# Altium footprint library Soldering_Trainer_PCB.PcbLib: 16 footprints
Each footprint in its own frame and in the unit in brackets; x right, y up, seen from the top. Pads: shape width x height; smd on the part's side, far side on the other; paste and mask are expansions set on the pad; w line width, h text height; cw(c..) or ccw(c..) is an arc to the next point about the centre after c.
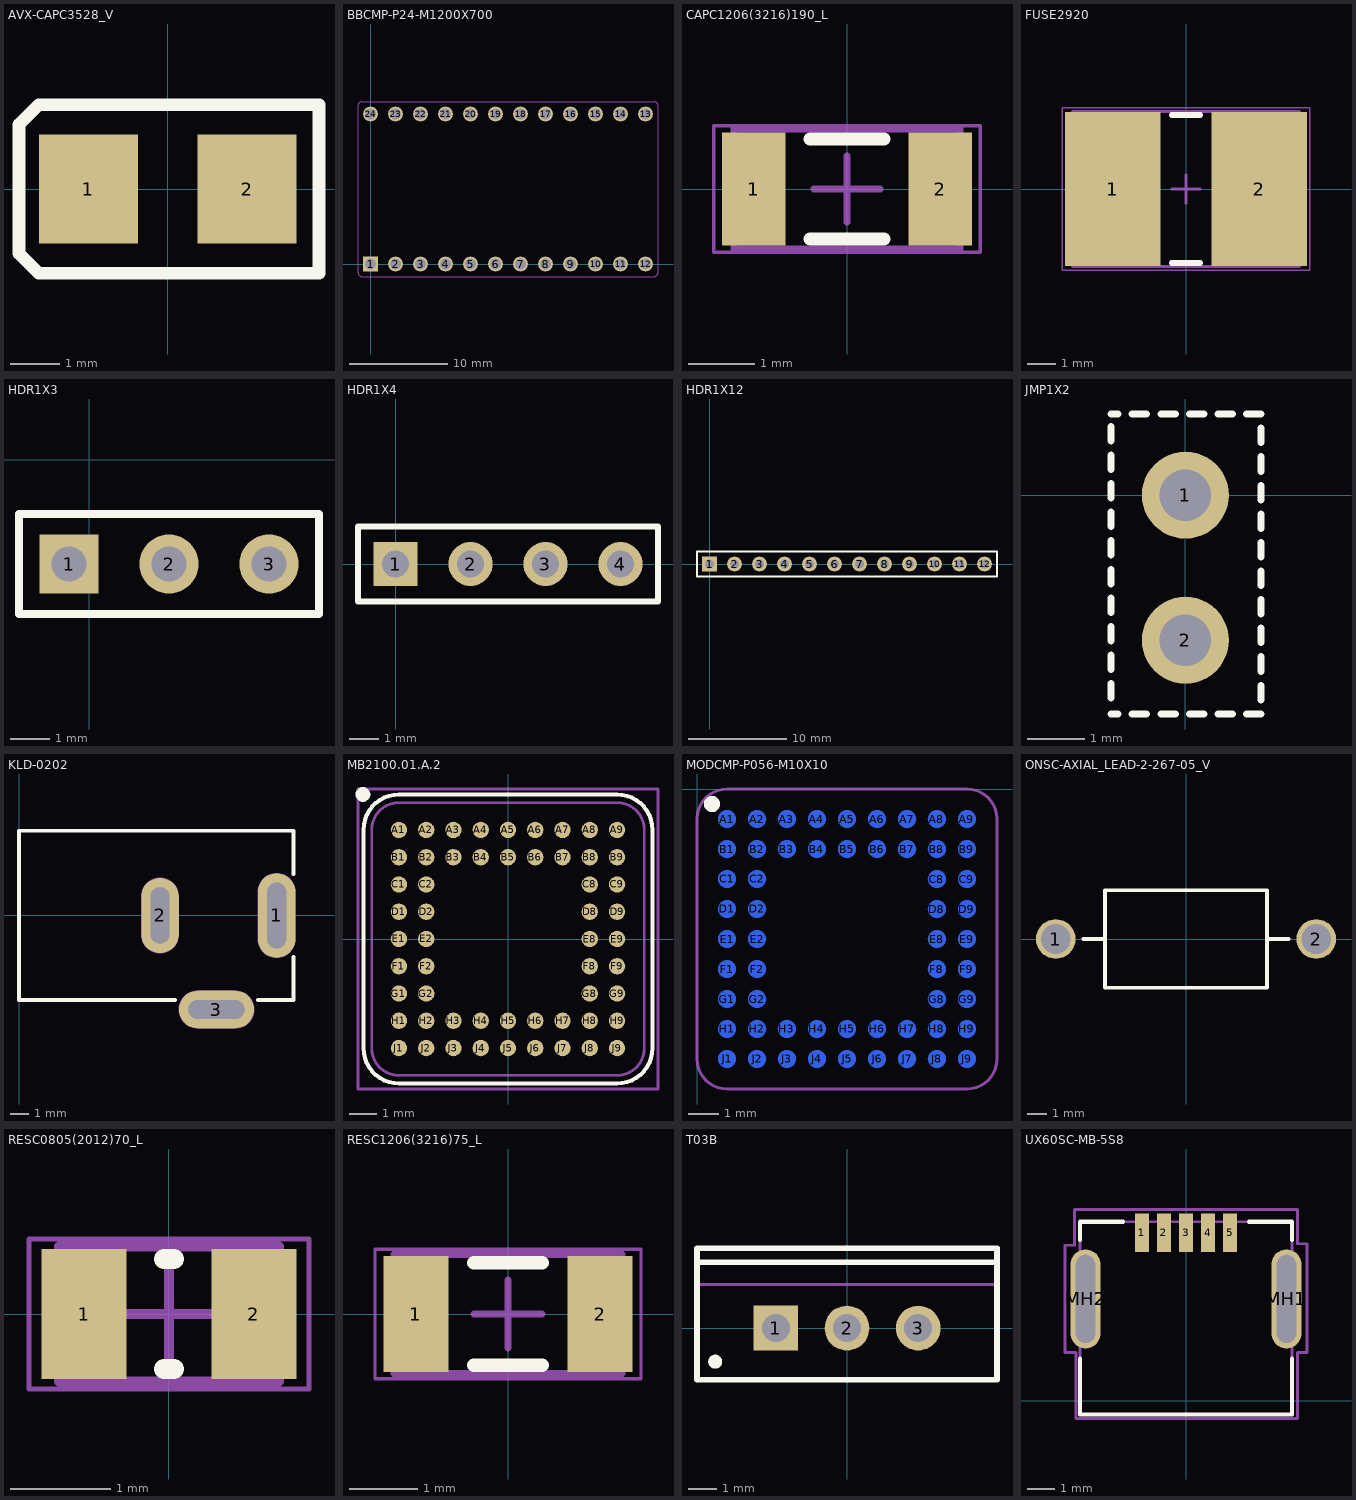
[diagram p0: the footprints below, top view; thin cyan lines are the x and y axes]

## AVX-CAPC3528_V [mm] "SMT Capacitor, 2 Leads, Body 3.5x2.8mm"
pads (2):
  rect 2x2.2 smd: 1(-1.6,0) 2(1.6,0)
Top Overlay:
  lines w0.254: -3,-1.3 -3,1.3 -2.6,1.7 3.05,1.7 3.05,-1.7 -2.6,-1.7 -3,-1.3
3D body: height 1.9, standoff 0, extent -1.704,-1.539 1.763,1.537
3D body: height 0.3, standoff 0, extent 1.578,-0.658 1.803,0.768
3D body: height 0.3, standoff 0, extent -1.793,-0.665 -1.568,0.824

## BBCMP-P24-M1200X700 [mm] "BB component,700mil width, 1200mil high"
pads (24):
  rect 1.5x1.5 hole 1.1: 1(0,0)
  round 1.5 hole 1.1: 2(2.54,0) 3(5.08,0) 4(7.62,0) 5(10.16,0) 6(12.7,0) 7(15.24,0) 8(17.78,0) 9(20.32,0) 10(22.86,0) 11(25.4,0) 12(27.94,0) 13(27.94,15.24) 14(25.4,15.24) 15(22.86,15.24) 16(20.32,15.24) 17(17.78,15.24) 18(15.24,15.24) 19(12.7,15.24) 20(10.16,15.24) 21(7.62,15.24) 22(5.08,15.24) 23(2.54,15.24) 24(0,15.24)
Mechanical 1:
  lines w0.05: -1.27,-0.889 ccw(c-0.889,-0.889) -0.889,-1.27 28.829,-1.27 ccw(c28.829,-0.889) 29.21,-0.889 29.21,16.129 ccw(c28.829,16.129) 28.829,16.51 -0.889,16.51 ccw(c-0.889,16.129) -1.27,16.129 -1.27,-0.889
3D body: height 2.49, standoff -9.05, extent -1.27,13.97 29.21,16.51
3D body: height 2.49, standoff -9.05, extent -1.27,-1.27 29.21,1.27

## CAPC1206(3216)190_L [mm] "Chip Capacitor, Body 3.2x1.6mm, Height 1.9mm, IPC High Density"
height 1.9
pads (2):
  rect 0.95x1.7 smd: 1(-1.4,0) 2(1.4,0)
Top Overlay:
  lines w0.2: -0.55,-0.75 0.55,-0.75 ; -0.55,0.75 0.55,0.75
Mechanical 13:
  lines w0.1: -1.7,-0.9 -1.7,0.9 1.7,0.9 1.7,-0.9 -1.7,-0.9
Mechanical 15:
  lines w0.05: -2,-0.95 -2,0.95 2,0.95 2,-0.95 -2,-0.95
  lines w0.1: -0.5,0 0.5,0 ; 0,-0.5 0,0.5
3D body: height 1.9, standoff 0, extent -1.2,-0.9 1.2,0.9
3D body: height 1.9, standoff 0, extent -1.7,-0.9 -1.2,0.9
3D body: height 1.9, standoff 0, extent 1.2,-0.9 1.7,0.9

## FUSE2920 [mm]
height 1.25
pads (2):
  rect 3.35x5.4 smd: 1(-2.575,0) 2(2.575,0)
Top Overlay:
  lines w0.2: -0.5,-2.6 0.5,-2.6 ; -0.5,2.6 0.5,2.6
Mechanical 13:
  lines w0.1: -3.99,-2.72 3.99,-2.72 3.99,2.72 -3.99,2.72 -3.99,-2.72
Mechanical 15:
  lines w0.05: -4.35,-2.85 4.35,-2.85 4.35,2.85 -4.35,2.85 -4.35,-2.85
  lines w0.1: -0.5,0 0.5,0 ; 0,-0.5 0,0.5
3D body: height 1, standoff 0, extent -3.85,-2.65 3.85,2.65

## HDR1X3 [mm] "Connector; Header; 3 Position"
pads (3):
  rect 1.5x1.5 hole 0.9: 1(-0.508,-2.643)
  round 1.5 hole 0.9: 2(2.032,-2.643) 3(4.572,-2.643)
Top Overlay:
  lines w0.2: -1.778,-3.913 5.842,-3.913 5.842,-1.373 -1.778,-1.373 -1.778,-3.913
3D body: height 2.67, standoff -8.87, extent -1.778,-3.913 5.842,-1.373

## HDR1X4 [mm] "Connector; Header; 4 Position"
pads (4):
  rect 1.5x1.5 hole 0.9: 1(0,0)
  round 1.5 hole 0.9: 2(2.54,0) 3(5.08,0) 4(7.62,0)
Top Overlay:
  lines w0.2: -1.27,-1.27 8.89,-1.27 8.89,1.27 -1.27,1.27 -1.27,-1.27

## HDR1X12 [mm] "Connector; Header; 12 Position"
pads (12):
  rect 1.5x1.5 hole 0.9: 1(0,0)
  round 1.5 hole 0.9: 2(2.54,0) 3(5.08,0) 4(7.62,0) 5(10.16,0) 6(12.7,0) 7(15.24,0) 8(17.78,0) 9(20.32,0) 10(22.86,0) 11(25.4,0) 12(27.94,0)
Top Overlay:
  lines w0.2: -1.27,-1.27 29.21,-1.27 29.21,1.27 0.635,1.27 -1.27,1.27 -1.27,-1.27

## JMP1X2 [mil]
pads (2):
  round 60 hole 35.5: 1(0,0) 2(0,-100)
Top Overlay:
  lines w5: -51.18,-150.8 -46.41,-150.8 ; -51.18,-100.39 -51.18,-90.55 ; -51.18,-80.71 -51.18,-70.87 ; -51.18,-61.02 -51.18,-51.18 ; -51.18,-41.34 -51.18,-31.5 ; -51.18,-21.65 -51.18,-11.81 ; -51.18,-1.97 -51.18,7.87 ; -51.18,17.72 -51.18,27.56 ; -51.18,37.4 -51.18,47.24 ; -51.18,55.89 -46.41,55.89 ; -36.57,55.89 -26.72,55.89 ; -16.88,-150.8 -7.04,-150.8 ; -16.88,55.89 -7.04,55.89 ; 2.8,-150.8 12.65,-150.8 ; 2.8,55.89 12.65,55.89 ; 22.49,-150.8 32.33,-150.8 ; 42.17,-150.8 52.02,-150.8 ; 42.17,55.89 52.02,55.89 ; 52.02,-101.59 52.02,-91.75 ; 52.02,-81.91 52.02,-72.06 ; 52.02,-62.22 52.02,-52.38 ; 52.02,-42.54 52.02,-32.69 ; 52.02,-22.85 52.02,-13.01 ; 52.02,-3.17 52.02,6.68 ; 52.02,16.52 52.02,26.36 ; 52.02,36.2 52.02,46.05 ; -51.18,-139.76 -51.18,-129.92 -51.18,-139.76 ; -51.18,-120.08 -51.18,-110.24 -51.18,-120.08 ; -36.57,-150.8 -26.72,-150.8 -36.57,-150.8 ; 22.49,55.89 32.33,55.89 22.49,55.89 ; 52.02,-140.96 52.02,-131.12 52.02,-140.96 ; 52.02,-121.28 52.02,-111.43 52.02,-121.28
3D body: height 323.43, standoff -117.51, extent -49.05,-153.94 49.32,46.06

## KLD-0202 [mm] "DC Power Jack, 2.5mm, KLD Series, PCB Mount"
height 1.2
pads (3):
  oval 2x4.5 hole 1 slot 3.5 at 90 deg: 1(13.7,0)
  oval 2x4 hole 1 slot 3 at 90 deg: 2(7.5,0)
  oval 4x2 hole 1 slot 3 at 0 deg: 3(10.5,-5)
Top Overlay:
  lines w0.2: 8.3,-4.5 0,-4.5 0,4.5 14.6,4.5 14.6,2.2 ; 12.7,-4.5 14.6,-4.5 14.6,-2.2
Mechanical 1:
  lines w1: 7.5,-1 7.5,1 ; 9.5,-5 11.5,-5 ; 13.7,-1.25 13.7,1.25
Mechanical 2:
  lines w2.016: 7.5,-1 7.5,1 ; 9.5,-5 11.5,-5 ; 13.7,-1.25 13.7,1.25
3D body: height 11.02, standoff -3.48, extent -0.126,-4.753 13.7,4.753

## MB2100.01.A.2 [mm]
height 1.2
pads (56):
  round 0.6 smd mask+0.05: A1(-4,4) A2(-3,4) A3(-2,4) A4(-1,4) A5(0,4) A6(1,4) A7(2,4) A8(3,4) A9(4,4) B1(-4,3) B2(-3,3) B3(-2,3) B4(-1,3) B5(0,3) B6(1,3) B7(2,3) B8(3,3) B9(4,3) C1(-4,2) C2(-3,2) C8(3,2) C9(4,2) D1(-4,1) D2(-3,1) D8(3,1) D9(4,1) E1(-4,0) E2(-3,0) E8(3,0) E9(4,0) F1(-4,-1) F2(-3,-1) F8(3,-1) F9(4,-1) G1(-4,-2) G2(-3,-2) G8(3,-2) G9(4,-2) H1(-4,-3) H2(-3,-3) H3(-2,-3) H4(-1,-3) H5(0,-3) H6(1,-3) H7(2,-3) H8(3,-3) H9(4,-3) J1(-4,-4) J2(-3,-4) J3(-2,-4) J4(-1,-4) J5(0,-4) J6(1,-4) J7(2,-4) J8(3,-4) J9(4,-4)
Top Overlay:
  circle w0.3: c-5.319,5.3 r0.119
  lines w0.15: -5.3,-4 ccw(c-4,-4) -4,-5.3 4,-5.3 ccw(c4,-4) 5.3,-4 5.3,4 ccw(c4,4) 4,5.3 -4,5.3 ccw(c-4,4) -5.3,4 -5.3,-4
Mechanical 13:
  lines w0.1: -5,-4 ccw(c-4,-4) -4,-5 4,-5 ccw(c4,-4) 5,-4 5,4 ccw(c4,4) 4,5 -4,5 ccw(c-4,4) -5,4 -5,-4
Mechanical 15:
  lines w0.1: -5.5,-5.5 -5.5,5.5 5.5,5.5 5.5,-5.5 -5.5,-5.5
3D body: height 2.2, standoff 0.02, extent -5.009,-5.017 5.009,5

## MODCMP-P056-M10X10 [mm] "Module Component - 1mm Pitch, 56-Pin, 10x10mm"
height 1.2
pads (56):
  round 0.6 smd far side mask+0.05: A1(1,-1) A2(2,-1) A3(3,-1) A4(4,-1) A5(5,-1) A6(6,-1) A7(7,-1) A8(8,-1) A9(9,-1) B1(1,-2) B2(2,-2) B3(3,-2) B4(4,-2) B5(5,-2) B6(6,-2) B7(7,-2) B8(8,-2) B9(9,-2) C1(1,-3) C2(2,-3) C8(8,-3) C9(9,-3) D1(1,-4) D2(2,-4) D8(8,-4) D9(9,-4) E1(1,-5) E2(2,-5) E8(8,-5) E9(9,-5) F1(1,-6) F2(2,-6) F8(8,-6) F9(9,-6) G1(1,-7) G2(2,-7) G8(8,-7) G9(9,-7) H1(1,-8) H2(2,-8) H3(3,-8) H4(4,-8) H5(5,-8) H6(6,-8) H7(7,-8) H8(8,-8) H9(9,-8) J1(1,-9) J2(2,-9) J3(3,-9) J4(4,-9) J5(5,-9) J6(6,-9) J7(7,-9) J8(8,-9) J9(9,-9)
Top Overlay:
  circle w0.3: c0.5,-0.5 r0.119
Mechanical 13:
  lines w0.1: 0,-9 ccw(c1,-9) 1,-10 9,-10 ccw(c9,-9) 10,-9 10,-1 ccw(c9,-1) 9,0 1,0 ccw(c1,-1) 0,-1 0,-9

## ONSC-AXIAL_LEAD-2-267-05_V [mm] "AXIAL, 2-Leads, Diameter 5.05mm"
height 5.05
pads (2):
  round 2.05 hole 1.55: 1(-6.745,0) 2(6.745,0)
Top Overlay:
  lines w0.2: -5.32,0 -4.2,0 ; 4.2,0 5.32,0 ; -4.2,-2.525 4.2,-2.525 4.2,2.525 -4.2,2.525 -4.2,-2.525

## RESC0805(2012)70_L [mm] "Chip Resistor, Body 2.0x1.3mm, IPC High Density"
height 0.7
pads (2):
  rect 0.85x1.3 smd: 1(-0.85,0) 2(0.85,0)
Top Overlay:
  lines w0.2: -0.05,-0.55 0.05,-0.55 ; -0.05,0.55 0.05,0.55
Mechanical 13:
  lines w0.1: -1.1,-0.675 1.1,-0.675 1.1,0.675 -1.1,0.675 -1.1,-0.675
Mechanical 15:
  lines w0.05: -1.4,-0.75 1.4,-0.75 1.4,0.75 -1.4,0.75 -1.4,-0.75
  lines w0.1: -0.5,0 0.5,0 ; 0,-0.5 0,0.5
3D body: height 0.7, standoff 0, extent 0.68,-0.675 1.1,0.675
3D body: height 0.7, standoff 0, extent -0.68,-0.675 0.68,0.675
3D body: height 0.7, standoff 0, extent -1.1,-0.675 -0.68,0.675

## RESC1206(3216)75_L [mm] "Chip Resistor, Body 3.2x1.6mm, IPC High Density"
height 0.75
pads (2):
  rect 0.95x1.7 smd: 1(-1.35,0) 2(1.35,0)
Top Overlay:
  lines w0.2: -0.5,-0.75 0.5,-0.75 ; -0.5,0.75 0.5,0.75
Mechanical 13:
  lines w0.1: -1.675,-0.875 1.675,-0.875 1.675,0.875 -1.675,0.875 -1.675,-0.875
Mechanical 15:
  lines w0.05: -1.95,-0.95 1.95,-0.95 1.95,0.95 -1.95,0.95 -1.95,-0.95
  lines w0.1: -0.5,0 0.5,0 ; 0,-0.5 0,0.5
3D body: height 0.75, standoff 0, extent 1.181,-0.874 1.675,0.875
3D body: height 0.75, standoff 0, extent -1.18,-0.874 1.181,0.875
3D body: height 0.75, standoff 0, extent -1.674,-0.874 -1.18,0.875

## T03B [mm] "TO, Thru-Hole, Vertical, Heatsink Mounted; 3 In-Line Leads; Pitch 2.54 mm"
height 19.4
pads (3):
  rect 1.6x1.6 hole 1: 1(-2.54,0)
  round 1.6 hole 1: 2(0,0) 3(2.54,0)
Top Overlay:
  circle w0.25: c-4.7,-1.2 r0.125
  lines w0.2: -5.35,2.35 5.35,2.35 ; -5.35,-1.85 -5.35,2.85 5.35,2.85 5.35,-1.85 -5.35,-1.85
Mechanical 13:
  lines w0.1: -5.35,1.55 5.35,1.55 ; -5.35,-1.85 5.35,-1.85 5.35,2.85 -5.35,2.85 -5.35,-1.85
Mechanical 15:
  lines w0.1: -0.5,0 0.5,0 ; 0,-0.5 0,0.5
3D body: height 12.9, standoff 4, extent -5.4,-1.9 5.4,2.9
3D body: height 19.8, standoff 12.9, extent -5.349,1.551 5.349,2.849

## UX60SC-MB-5S8 [mm]
pads (7):
  rect 0.5x1.4 smd: 1(-1.6,6.1) 2(-0.8,6.1) 3(0,6.1) 4(0.8,6.1) 5(1.6,6.1)
  oval 1.1x3.6 hole 0.7 slot 3.2 at 90 deg: MH1(3.65,3.7) MH2(-3.65,3.7)
Top Overlay:
  lines w0.15: -3.85,1.524 -3.85,-0.5 3.85,-0.5 3.85,1.524 ; -3.85,5.842 -3.85,6.5 -2.286,6.5 ; 2.286,6.5 3.85,6.5 3.85,5.842
Mechanical 13:
  lines w0.1: -3.85,-0.5 3.85,-0.5 3.85,6.5 -3.85,6.5 -3.85,-0.5
Mechanical 15:
  lines w0.1: -4.4,1.75 -4,1.75 -4,-0.65 4.05,-0.65 4.05,1.75 4.4,1.75 4.4,5.7 4.05,5.7 4.05,6.95 -4.05,6.95 -4.05,5.65 -4.4,5.65 -4.4,1.75
3D body: height 3.92, standoff -0.78, extent -3.85,-0.5 3.85,6.5